# Altium schematic symbol library АлександрЭлектрик.SchLib: 1 symbol
Pins are listed as number, name and electrical type; pins without a type are passive.

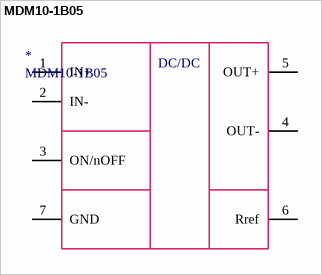
[diagram p0: symbol MDM10-1В05]

## MDM10-1В05
designator *
БКЯЮ.436630.004ТУ
pins: 1 IN+, 2 IN-, 3 ON/nOFF, 4 OUT-, 5 OUT+, 6 Rref, 7 GND
text: DC/DC